# EAGLE library part USB3145-30-1-A (library USB3145-30-1-A)
GCT (GLOBAL CONNECTOR TECHNOLOGY) - USB3145-30-1-A - MICRO USB, 2.0 TYPE B, RECEPTACLE, TH Source: Datasheet
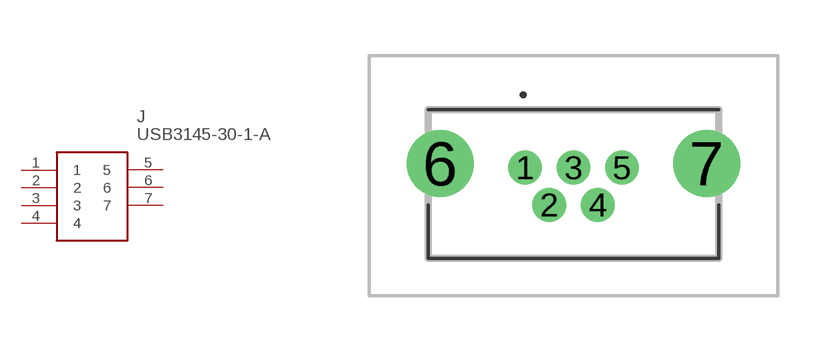
[diagram p0: symbol with the pads of USB3145301A; footprint USB3145301A]

Designator prefix J

## USB3145-30-1-A (Description: GCT (GLOBAL CONNECTOR TECHNOLOGY) - USB3145-30-1-A - MICRO USB, 2.0 TYPE B, RECEPTACLE, TH; Height: mm; Manufacturer_Name: GCT (GLOBAL CONNECTOR TECHNOLOGY); Manufacturer_Part_Number: USB3145-30-1-A; Mouser_Part_Number: 640-USB3145-30-1-A; Mouser_Price-Stock: https://www.mouser.co.uk/ProductDetail/GCT/USB3145-30-1-A?qs=KUoIvG%2F9IlYD1lvSRu5iyg%3D%3D)  [USB3145301A]
1  1
2  2
3  3
4  4
5  5
6  6
7  7

## Footprint USB3145301A (pad centres in mm)
USB3145-30-1-A
drill 0.4 pad 0.8: 1 -1.3,0.22; 2 -0.65,-0.78; 3 0,0.22; 4 0.65,-0.78; 5 1.3,0.22
drill 1.202 pad 1.803: 6 -3.575,0.33; 7 3.575,0.33